# Altium schematic symbol library DIODE SCHOTTKY - GENERIC.SchLib: 1 symbol
Pins are listed as number, name and electrical type; pins without a type are passive.

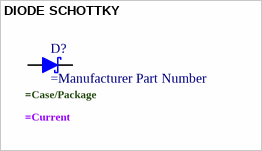
[diagram p0: symbol DIODE SCHOTTKY]

## DIODE SCHOTTKY
designator D?
.Current: =Current; .Case/Package: =Case/Package
pins: 1, 2